# EAGLE library part CPC9909NE (library LED Drivers)
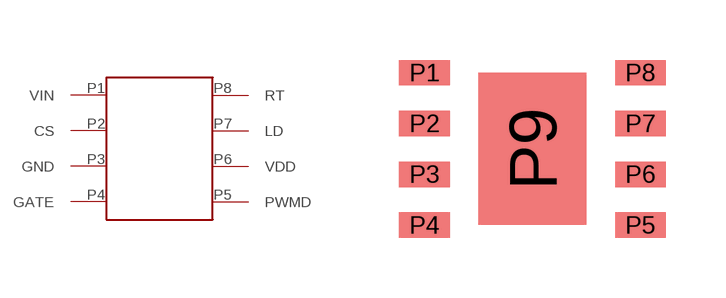
[diagram p0: symbol with the pads of SOIC-8EP; footprint SOIC-8EP]

Designator prefix -

## CPC9909NE  [SOIC-8EP]
P1  VIN
P2  CS
P3  GND
P4  GATE
P5  PWMD
P6  VDD
P7  LD
P8  RT

## Footprint SOIC-8EP (pad centres in mm)
SOIC-8 with Exposed Thermal Pad
smd 1.27 x 0.635: P1 0,0; P2 0,-1.27; P3 0,-2.54; P4 0,-3.81; P5 5.4,-3.81; P6 5.4,-2.54; P7 5.4,-1.27; P8 5.4,0
smd 2.7 x 3.8: P9 2.7,-1.9